# Altium footprint library Varistor.PcbLib: 1 footprints
Each footprint in its own frame and in the unit in brackets; x right, y up, seen from the top. Pads: shape width x height; smd on the part's side, far side on the other; paste and mask are expansions set on the pad; w line width, h text height; cw(c..) or ccw(c..) is an arc to the next point about the centre after c.
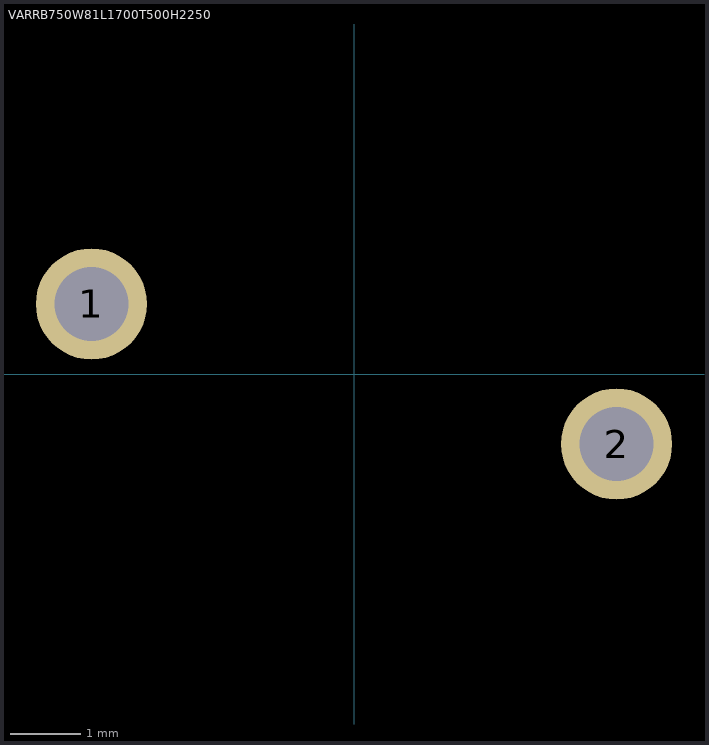
[diagram p0: the footprint, top view; thin cyan lines are the x and y axes]

## VARRB750W81L1700T500H2250 [mm]
pads (2):
  round 1.59 hole 1.06: 1(-3.75,1) 2(3.75,-1)
3D body "MOV-10D271K.STEP": height 15.5, standoff -17, extent -6.25,-1.873 6.25,2.127